# Altium schematic symbol library VJ0805Y104KBABE31.SchLib: 1 symbol
Pins are listed as number, name and electrical type; pins without a type are passive.

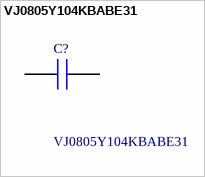
[diagram p0: symbol VJ0805Y104KBABE31]

## VJ0805Y104KBABE31
designator C?
Multilayer Ceramic Capacitors MLCC - SMD/SMT 0805 .1uF 50volts X7R 10%; Manufacturer_Name: Vishay; Geometry.Height: 1.45mm; Mouser Part Number: 77-VJ0805Y104KBABE31; Mouser Price/Stock: https://www.mouser.co.uk/ProductDetail/Vishay-Vitramon/VJ0805Y104KBABE31?qs=TLaLXeh6c70yB%252BsdRZoYCQ%3D%3D; Manufacturer_Part_Number: VJ0805Y104KBABE31; Datasheet Link: *
footprint CAPC2012X145N
pins: 1, 2